# Altium schematic symbol library XTAL_GEN.SchLib: 1 symbol
Pins are listed as number, name and electrical type; pins without a type are passive.

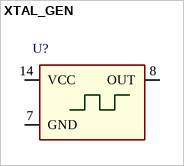
[diagram p0: symbol XTAL_GEN]

## XTAL_GEN
designator U?
PDF: *; BUY_LINK: *; PRICE: *
footprint XTAL_GEN
pins: 7 GND, 8 OUT, 14 VCC